# Altium schematic symbol library MPM3610GQV-P.SchLib: 1 symbol
Pins are listed as number, name and electrical type; pins without a type are passive.

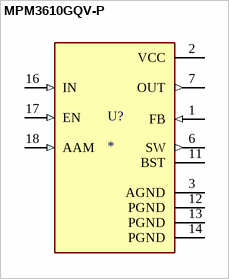
[diagram p0: symbol MPM3610GQV-P]

## MPM3610GQV-P
designator U?
Non-Isolated PoL Module DC DC Converter 1 Output 0.8 ~ 18.48V - - 1.2A 4.5V - 21V Input; MF: Monolithic Power; MP: MPM3610GQV-P; Package: QFN-20 MPS; Price: None; Check_prices: https://www.snapeda.com/parts/MPM3610GQV-P/Monolithic+Power+Systems+Inc./view-part/?ref=eda; Value: *; SnapEDA_Link: https://www.snapeda.com/parts/MPM3610GQV-P/Monolithic+Power+Systems+Inc./view-part/?ref=snap; Availability: In Stock; Purchase-URL: https://pricing.snapeda.com/search?q=MPM3610GQV-P&ref=eda
footprint CONV_MPM3610GQV-P
pins: 1 FB (in), 2 VCC (power), 3 AGND (power), 6 SW (out), 7 OUT (out), 11 BST, 12 PGND (power), 13 PGND (power), 14 PGND (power), 16 IN (in), 17 EN (in), 18 AAM (in)